# Altium schematic symbol library STM32H750底板.SCHLIB: 19 symbols
Pins are listed as number, name and electrical type; pins without a type are passive.

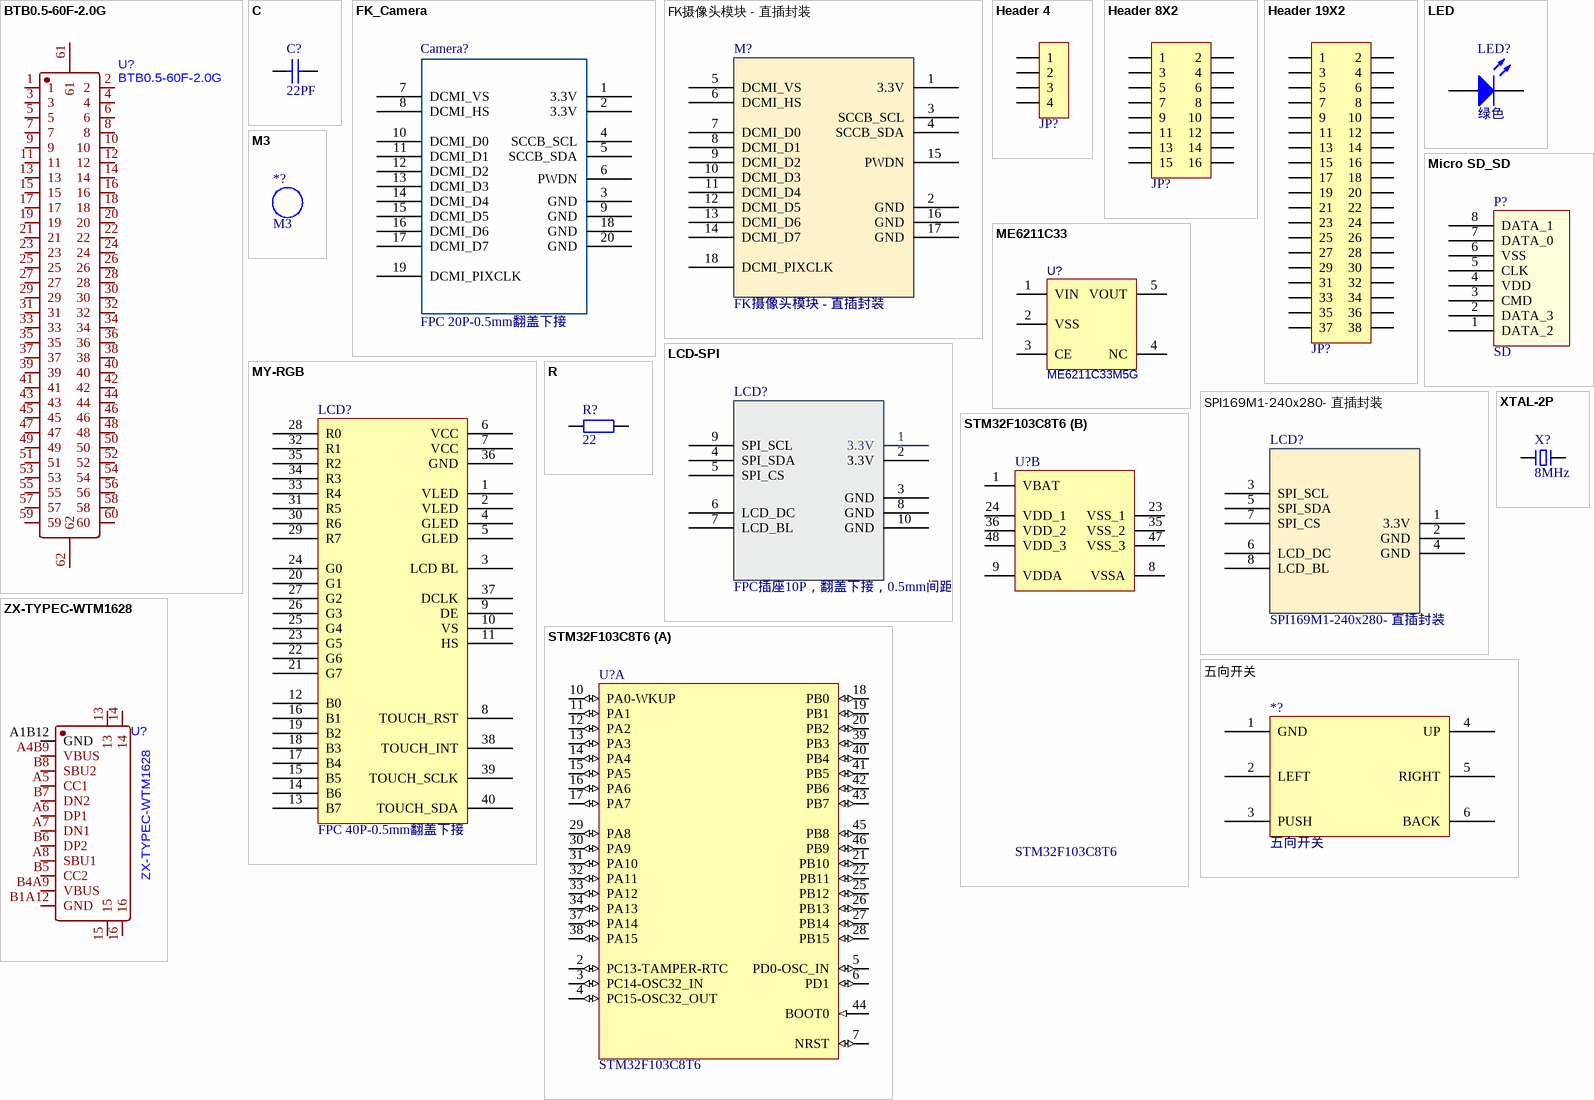
[diagram p0: symbols BTB0.5-60F-2.0G to 五向开关]

## BTB0.5-60F-2.0G
designator U?
footprint CONN-SMD_60P-P0.50_BTB0.5-60F-2.0G
pins: 1, 2, 3, 4, 5, 6, 7, 8, 9, 10, 11, 12, 13, 14, 15, 16, 17, 18, 19, 20, 21, 22, 23, 24, 25, 26, 27, 28, 29, 30, 31, 32, 33, 34, 35, 36, 37, 38, 39, 40, 41, 42, 43, 44, 45, 46, 47, 48, 49, 50, 51, 52, 53, 54, 55, 56, 57, 58, 59, 60, 61, 62

## C
designator C?, comment 22PF
贴片电容/MLCC电容
footprint C0603_L (贴片MLCC电容)
pins: 1, 2

## FK_Camera
designator Camera?, comment FPC 20P-0.5mm翻盖下接
footprint FPC20P-0.5MM
pins: 1 3.3V, 2 3.3V, 3 GND, 4 SCCB_SCL, 5 SCCB_SDA, 6 PWDN, 7 DCMI_VS, 8 DCMI_HS, 9 GND, 10 DCMI_D0, 11 DCMI_D1, 12 DCMI_D2, 13 DCMI_D3, 14 DCMI_D4, 15 DCMI_D5, 16 DCMI_D6, 17 DCMI_D7, 18 GND, 19 DCMI_PIXCLK, 20 GND

## FK摄像头模块 - 直插封装
designator M?
pins: 1 3.3V, 2 GND, 3 SCCB_SCL, 4 SCCB_SDA, 5 DCMI_VS, 6 DCMI_HS, 7 DCMI_D0, 8 DCMI_D1, 9 DCMI_D2, 10 DCMI_D3, 11 DCMI_D4, 12 DCMI_D5, 13 DCMI_D6, 14 DCMI_D7, 15 PWDN, 16 GND, 17 GND, 18 DCMI_PIXCLK

## Header 4
designator JP?, comment HDR-1X4  (value not drawn)
4P接插件
footprint HDR2.54-LI-4P (排针，4脚)
pins: 1, 2, 3, 4

## Header 8X2
designator JP?  (value not drawn)
8*2P接插件
footprint HDR2.54-LI-2x8P (双排排针，8x2脚)
pins: 1, 2, 3, 4, 5, 6, 7, 8, 9, 10, 11, 12, 13, 14, 15, 16

## Header 19X2
designator JP?, comment Header 2X11  (value not drawn)
19*2P接插件
footprint HDR2.54-LI-2x19P (双排排针，19x2脚)
pins: 1, 2, 3, 4, 5, 6, 7, 8, 9, 10, 11, 12, 13, 14, 15, 16, 17, 18, 19, 20, 21, 22, 23, 24, 25, 26, 27, 28, 29, 30, 31, 32, 33, 34, 35, 36, 37, 38

## LCD-SPI
designator LCD?, comment FPC插座10P，翻盖下接，0.5mm间距
footprint FPC10P-0.5MM
pins: 1 3.3V, 2 3.3V, 3 GND, 4 SPI_SDA, 5 SPI_CS, 6 LCD_DC, 7 LCD_BL, 8 GND, 9 SPI_SCL, 10 GND

## LED
designator LED?, comment 绿色
贴片LED
footprint LED0805_G (绿色0805LED)
pins: 1 A, 2 K

## M3
designator *?
铜柱孔
footprint M3 125X200 (M3螺丝孔，孔125Mil，焊盘200Mil)

## ME6211C33
designator U?, comment ME6211C33M5G
LDO 3.3V/0.5A
footprint SOT-23-5 (SOT23, 5-Leads, Body 2.9x1.6mm, Pitch 0.95mm, IPC Medium Density)
pins: 1 VIN, 2 VSS, 3 CE, 4 NC, 5 VOUT

## Micro SD_SD
designator P?, comment SD
自弹式TF卡座
footprint MICRO SD
pins: 1 DATA_2, 2 DATA_3, 3 CMD, 4 VDD, 5 CLK, 6 VSS, 7 DATA_0, 8 DATA_1

## MY-RGB
designator LCD?, comment FPC 40P-0.5mm翻盖下接
footprint FPC40P-0.5MM (两边固定焊盘改小)
pins: 1 VLED, 2 VLED, 3 LCD BL, 4 GLED, 5 GLED, 6 VCC, 7 VCC, 8 TOUCH_RST, 9 DE, 10 VS, 11 HS, 12 B0, 13 B7, 14 B6, 15 B5, 16 B1, 17 B4, 18 B3, 19 B2, 20 G1, 21 G7, 22 G6, 23 G5, 24 G0, 25 G4, 26 G3, 27 G2, 28 R0, 29 R7, 30 R6, 31 R5, 32 R1, 33 R4, 34 R3, 35 R2, 36 GND, 37 DCLK, 38 TOUCH_INT, 39 TOUCH_SCLK, 40 TOUCH_SDA

## R
designator R?, comment 22
贴片电阻
footprint R0402_L (1/16W贴片电阻)
footprint R0603_L (1/10W贴片电阻)
pins: 1, 2

## SPI169M1-240x280- 直插封装
designator LCD?
footprint SPI169M1-240x280 - 直插封装
pins: 1 3.3V, 2 GND, 3 SPI_SCL, 4 GND, 5 SPI_SDA, 6 LCD_DC, 7 SPI_CS, 8 LCD_BL

## STM32F103C8T6
designator U?
STM32 ARM-based 32-bit MCU Performance Line with 64 kB Flash, 20 kB Internal RAM, -40 to +85癈 Temperature, 48-Pin LQFP, Tray
footprint LQFP48_N (Thin QFP, 48-Leads, Body 7x7mm, Pitch 0.5mm, IPC Medium Density)
part A pins: 2 PC13-TAMPER-RTC (io), 3 PC14-OSC32_IN (io), 4 PC15-OSC32_OUT (io), 5 PD0-OSC_IN (io), 6 PD1 (io), 7 NRST (io), 10 PA0-WKUP (io), 11 PA1 (io), 12 PA2 (io), 13 PA3 (io), 14 PA4 (io), 15 PA5 (io), 16 PA6 (io), 17 PA7 (io), 18 PB0 (io), 19 PB1 (io), 20 PB2 (io), 21 PB10 (io), 22 PB11 (io), 25 PB12 (io), 26 PB13 (io), 27 PB14 (io), 28 PB15 (io), 29 PA8 (io), 30 PA9 (io), 31 PA10 (io), 32 PA11 (io), 33 PA12 (io), 34 PA13 (io), 37 PA14 (io), 38 PA15 (io), 39 PB3 (io), 40 PB4 (io), 41 PB5 (io), 42 PB6 (io), 43 PB7 (io), 44 BOOT0 (in), 45 PB8 (io), 46 PB9 (io)
part B pins: 1 VBAT (power), 8 VSSA (power), 9 VDDA (power), 23 VSS_1 (power), 24 VDD_1 (power), 35 VSS_2 (power), 36 VDD_2 (power), 47 VSS_3 (power), 48 VDD_3 (power)

## XTAL-2P
designator X?, comment 8MHz
2脚无源晶振(谐振器）
footprint XTAL-3215-2P (3.2*1.5*0.6mm(长宽高))
pins: 1, 2

## ZX-TYPEC-WTM1628
designator U?
footprint USB-C-SMD_ZX-TYPEC-WTM1628
pins: 13, 14, 15, 16, A1B12 GND, A4B9 VBUS, A5 CC1, A6 DP1, A7 DN1, A8 SBU1, B1A12 GND, B4A9 VBUS, B5 CC2, B6 DP2, B7 DN2, B8 SBU2

## 五向开关
designator *?
footprint PCBComponent_1 - duplicate
pins: 1 GND, 2 LEFT, 3 PUSH, 4 UP, 5 RIGHT, 6 BACK